# EAGLE library part TUSB4041IPAPR (library Texas Instruments)
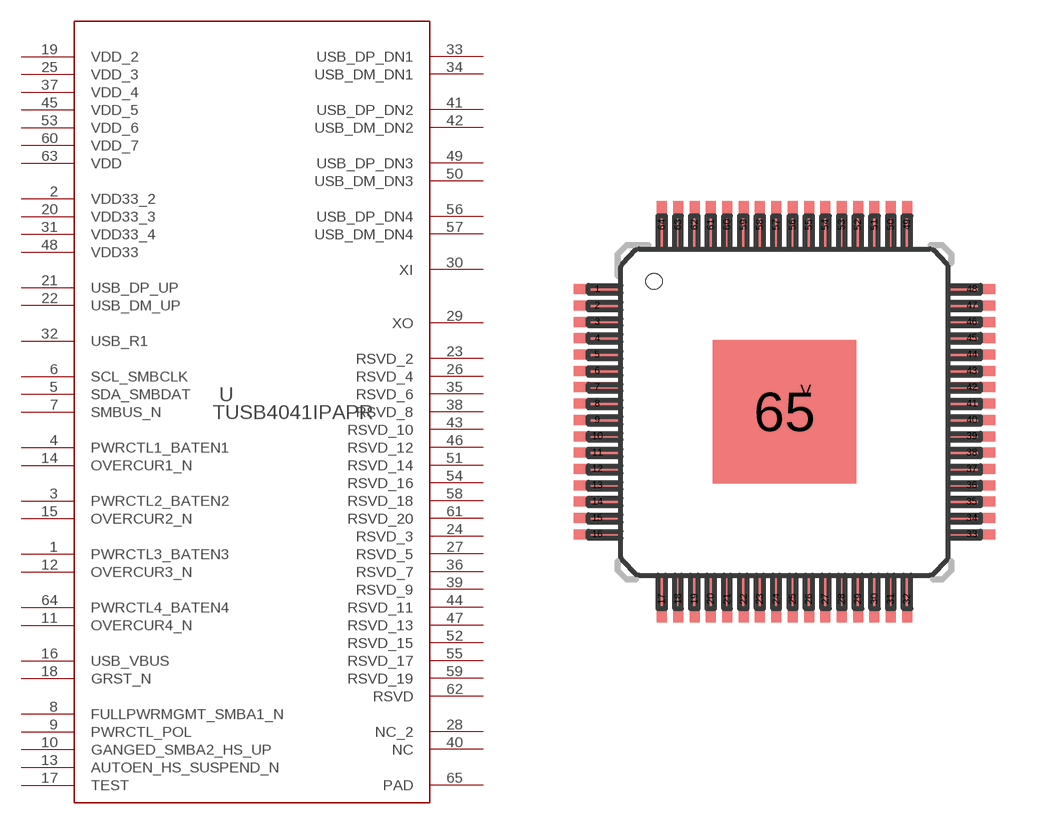
[diagram p28: symbol with the pads of PAP0064K_N; footprint PAP0064K_N]

Designator prefix U

## TUSB4041IPAPR (ALTERNATEPARTNUMBER: TUSB4041IPAP; APPLICATION_BUILDNUMBER: *; COMPTYPE: IC; MANUFACTURER: Texas Instruments; MOUNTTYPE: SMT; PACKAGEREFERENCE: PAP0064K; PARTNUMBER: TUSB4041IPAPR; PIN_COUNT: 65; REFDES: RefDes; ROHS: Y; TYPE: TYPE; VALUE: Value)  [PAP0064K_N]
1  PWRCTL3_BATEN3
2  VDD33_2  pwr
3  PWRCTL2_BATEN2
4  PWRCTL1_BATEN1
5  SDA_SMBDAT
6  SCL_SMBCLK
7  SMBUS_N
8  FULLPWRMGMT_SMBA1_N
9  PWRCTL_POL
10  GANGED_SMBA2_HS_UP
11  OVERCUR4_N  in
12  OVERCUR3_N  in
13  AUTOEN_HS_SUSPEND_N
14  OVERCUR1_N  in
15  OVERCUR2_N  in
16  USB_VBUS  in
17  TEST  in
18  GRST_N  in
19  VDD_2  pwr
20  VDD33_3  pwr
21  USB_DP_UP
22  USB_DM_UP
23  RSVD_2  pas
24  RSVD_3  pas
25  VDD_3  pwr
26  RSVD_4  pas
27  RSVD_5  pas
28  NC_2  pas
29  XO  pas
30  XI  pas
31  VDD33_4  pwr
32  USB_R1  pas
33  USB_DP_DN1
34  USB_DM_DN1
35  RSVD_6  pas
36  RSVD_7  pas
37  VDD_4  pwr
38  RSVD_8  pas
39  RSVD_9  pas
40  NC  pas
41  USB_DP_DN2
42  USB_DM_DN2
43  RSVD_10  pas
44  RSVD_11  pas
45  VDD_5  pwr
46  RSVD_12  pas
47  RSVD_13  pas
48  VDD33  pwr
49  USB_DP_DN3
50  USB_DM_DN3
51  RSVD_14  pas
52  RSVD_15  pas
53  VDD_6  pwr
54  RSVD_16  pas
55  RSVD_17  pas
56  USB_DP_DN4
57  USB_DM_DN4
58  RSVD_18  pas
59  RSVD_19  pas
60  VDD_7  pwr
61  RSVD_20  pas
62  RSVD  pas
63  VDD  pwr
64  PWRCTL4_BATEN4
65  PAD  pwr

## Footprint PAP0064K_N (pad centres in mm)
smd 1.448 x 0.305: 1 -5.725,3.75; 2 -5.725,3.25; 3 -5.725,2.75; 4 -5.725,2.25; 5 -5.725,1.75; 6 -5.725,1.25; 7 -5.725,0.75; 8 -5.725,0.25; 9 -5.725,-0.25; 10 -5.725,-0.75; 11 -5.725,-1.25; 12 -5.725,-1.75; 13 -5.725,-2.25; 14 -5.725,-2.75; 15 -5.725,-3.25; 16 -5.725,-3.75; 33 5.725,-3.75; 34 5.725,-3.25; 35 5.725,-2.75; 36 5.725,-2.25; 37 5.725,-1.75; 38 5.725,-1.25; 39 5.725,-0.75; 40 5.725,-0.25; 41 5.725,0.25; 42 5.725,0.75; 43 5.725,1.25; 44 5.725,1.75; 45 5.725,2.25; 46 5.725,2.75; 47 5.725,3.25; 48 5.725,3.75
smd 0.305 x 1.448: 17 -3.75,-5.725; 18 -3.25,-5.725; 19 -2.75,-5.725; 20 -2.25,-5.725; 21 -1.75,-5.725; 22 -1.25,-5.725; 23 -0.75,-5.725; 24 -0.25,-5.725; 25 0.25,-5.725; 26 0.75,-5.725; 27 1.25,-5.725; 28 1.75,-5.725; 29 2.25,-5.725; 30 2.75,-5.725; 31 3.25,-5.725; 32 3.75,-5.725; 49 3.75,5.725; 50 3.25,5.725; 51 2.75,5.725; 52 2.25,5.725; 53 1.75,5.725; 54 1.25,5.725; 55 0.75,5.725; 56 0.25,5.725; 57 -0.25,5.725; 58 -0.75,5.725; 59 -1.25,5.725; 60 -1.75,5.725; 61 -2.25,5.725; 62 -2.75,5.725; 63 -3.25,5.725; 64 -3.75,5.725
smd 4.394 x 4.394: 65 0,0
smd 0.508 x 0.508: V 0.65,0.65